# EAGLE library part LTC1628 (library MAX9812)
Linear Tech's LTC1628 High Efficiency, 2-Phase Synchronous Step-Down Switching Regulators Description: The LTC®1628/LTC1628-PG are high performance dual step-down switching regulator controllers that drive all N-channel synchronous power MOSFET stages. A constant frequency current mode architecture allows adjustment of the frequency up to 300kHz. Power loss and noise due to the ESR of the input capacitors are minimized by operating the two controller output stages out of phase. OPTI-LOOP compensation allows the transient response to be optimized over a wide range of output capacitance and ESR values. The precision 0.8V reference and power good output indicator are compatible with future microprocessor generations, and a wide 3.5V to 30V (36V maximum) input supply range encompasses all battery chemistries. A RUN/SS pin for each controller provides both soft-start and optional timed, short-circuit shutdown. Current foldback limits MOSFET dissipation during short-circuit conditions when overcurrent latchoff is disabled. Output overvoltage protection circuitry latches on the bottom MOSFET until VOUT returns to normal. The FCB mode pin can select among Burst Mode, constant frequency mode and continuous inductor current mode or regulate a secondary winding. The LTC1628-PG includes a power good output pin that replaces the FLTCPL, fault coupling control pin of the LTC1628. Features: Out-of-Phase Controllers Reduce Required Input Capacitance and Power Supply Induced Noise OPTI-LOOP® Compensation Minimizes COUT ±1% Output Voltage Accuracy Dual N-Channel MOSFET Synchronous Drive Power Good Output Voltage Monitor (LTC1628-PG) DC Programmed Fixed Frequency 150kHz to 300kHz Wide VIN Range: 3.5V to 36V Operation Very Low Dropout Operation: 99% Duty Cycle Adjustable Soft-Start Current Ramping Foldback Output Current Limiting Latched Short-Circuit Shutdown with Defeat Option Output Overvoltage Protection Remote Output Voltage Sense Low Shutdown IQ: 20mA 5V and 3.3V Standby Regulators Selectable Constant Frequency or Burst Mode® Operation Available in 5mm ´ 5mm QFN and 28-Pin SSOP Packages Applications: Notebook and Palmtop Computers, PDAs Battery Chargers Portable Instruments Battery-Operated Digital Devices DC Power Distribution Systems Please send any comments to: messi@users.sourceforge.net
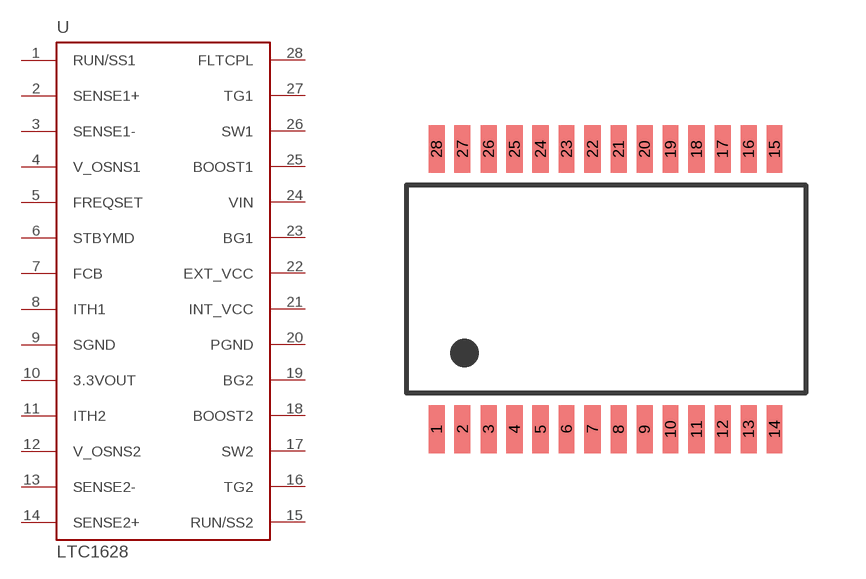
[diagram p59: symbol with the pads of SSOP28; footprint SSOP28]

Designator prefix U

## LTC1628  [SSOP28]
1  RUN/SS1  in
2  SENSE1+  in
3  SENSE1-  in
4  V_OSNS1  in
5  FREQSET  in
6  STBYMD  in
7  FCB  in
8  ITH1  out
9  SGND  pwr
10  3.3VOUT  out
11  ITH2  out
12  V_OSNS2  in
13  SENSE2-  in
14  SENSE2+  in
15  RUN/SS2  in
16  TG2  out
17  SW2  out
18  BOOST2  in
19  BG2  out
20  PGND  pwr
21  INT_VCC  out
22  EXT_VCC  in
23  BG1  out
24  VIN  pwr
25  BOOST1  in
26  SW1  out
27  TG1  out
28  FLTCPL  in

## Footprint SSOP28 (pad centres in mm)
SSOP-28 Package E.g. LTC1628
smd 0.4 x 1.2: 1 -4.225,-3.5; 2 -3.575,-3.5; 3 -2.925,-3.5; 4 -2.275,-3.5; 5 -1.625,-3.5; 6 -0.975,-3.5; 7 -0.325,-3.5; 8 0.325,-3.5; 9 0.975,-3.5; 10 1.625,-3.5; 11 2.275,-3.5; 12 2.925,-3.5; 13 3.575,-3.5; 14 4.225,-3.5; 15 4.225,3.5; 16 3.575,3.5; 17 2.925,3.5; 18 2.275,3.5; 19 1.625,3.5; 20 0.975,3.5; 21 0.325,3.5; 22 -0.325,3.5; 23 -0.975,3.5; 24 -1.625,3.5; 25 -2.275,3.5; 26 -2.925,3.5; 27 -3.575,3.5; 28 -4.225,3.5